# Altium footprint library PCB - SPECIALISEDSENSOR - FREESCALE MP3H6115AC6.PCBLIB: 1 footprints
Each footprint in its own frame and in the unit in brackets; x right, y up, seen from the top. Pads: shape width x height; smd on the part's side, far side on the other; paste and mask are expansions set on the pad; w line width, h text height; cw(c..) or ccw(c..) is an arc to the next point about the centre after c.
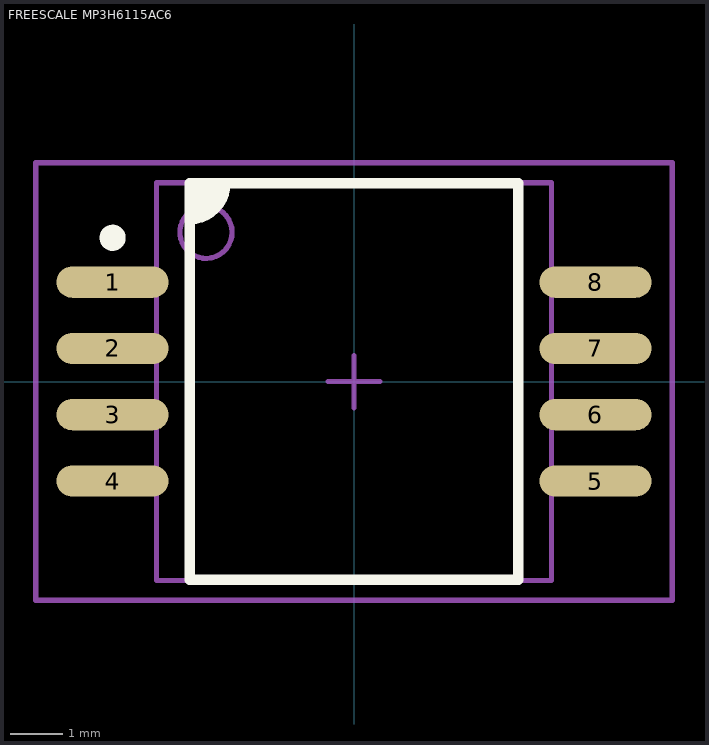
[diagram p0: the footprint, top view; thin cyan lines are the x and y axes]

## FREESCALE MP3H6115AC6 [mm] "SOIC, 8-Leads, Body 7.6x7.6mm (max), Pitch 1.27mm, IPC Medium Density"
height 4.191
pads (8):
  oval 2.15x0.6 smd: 1(-4.625,1.905) 2(-4.625,0.635) 3(-4.625,-0.635) 4(-4.625,-1.905) 5(4.625,-1.905) 6(4.625,-0.635) 7(4.625,0.635) 8(4.625,1.905)
Top Overlay:
  circle w0.25: c-4.625,2.755 r0.125
  region: -2.465,3.796 -3.146,3.796 -3.15,3.8 -3.15,3.111 -2.973,3.111 -2.465,3.619
  lines w0.2: -3.15,3.111 ccw(c-3.15,3.796) -2.465,3.796 ; -3.15,-3.8 -3.15,3.8 3.15,3.8 3.15,-3.8 -3.15,-3.8
Mechanical 13:
  circle w0.1: c-2.835,2.86 r0.5
  lines w0.1: -3.785,-3.81 -3.785,3.81 3.785,3.81 3.785,-3.81 -3.785,-3.81
Mechanical 15:
  lines w0.1: -0.5,0 0.5,0 ; 0,-0.5 0,0.5 ; -6.096,-4.191 -6.096,4.191 6.096,4.191 6.096,-4.191 -6.096,-4.191
3D body "MP3H6115AC.STEP": height 9.65, standoff 0, extent -5.229,-4.255 5.229,4.254